# EAGLE library part HX0068ANL (library DSDEagleLibrary)
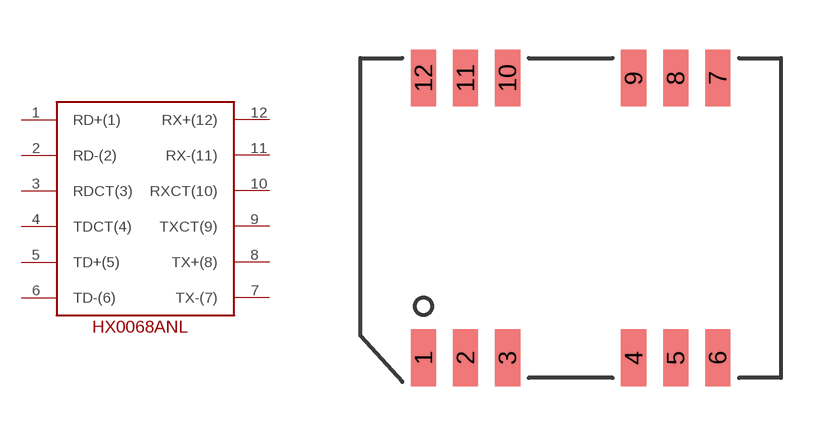
[diagram p47: symbol with the pads of HX0068ANL; footprint HX0068ANL]

Designator prefix -

## HX0068ANL  [HX0068ANL]
1  RD+(1)
2  RD-(2)
3  RDCT(3)
4  TDCT(4)
5  TD+(5)
6  TD-(6)
7  TX-(7)
8  TX+(8)
9  TXCT(9)
10  RXCT(10)
11  RX-(11)
12  RX+(12)

## Footprint HX0068ANL (pad centres in mm)
smd 0.762 x 1.714: 1 -4.445,-4.223; 2 -3.175,-4.223; 3 -1.905,-4.223; 4 1.905,-4.223; 5 3.175,-4.223; 6 4.445,-4.223; 7 4.445,4.223; 8 3.175,4.223; 9 1.905,4.223; 10 -1.905,4.223; 11 -3.175,4.223; 12 -4.445,4.223